# Altium schematic symbol library IC_CC2D.SchLib: 1 symbol
Pins are listed as number, name and electrical type; pins without a type are passive.

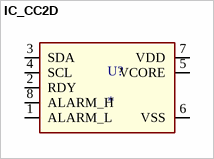
[diagram p0: symbol IC_CC2D]

## IC_CC2D
designator U?
pins: 1 ALARM_L, 2 RDY, 3 SDA, 4 SCL, 5 VCORE, 6 VSS, 7 VDD, 8 ALARM_H